# EAGLE library part 108-2AD1T3642-EVX (library switch-mountain)
Toggle Switch DPDT, Sealed Sub-Miniature, Right Angle
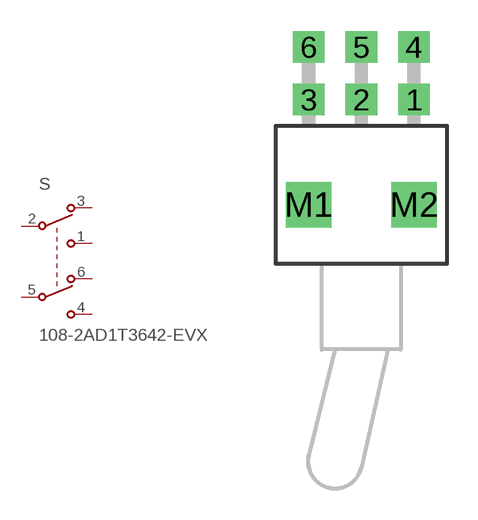
[diagram p0: symbol with the pads of 108-2AD1T3642-EVX; footprint 108-2AD1T3642-EVX]

Designator prefix S

## 108-2AD1T3642-EVX  [108-2AD1T3642-EVX]
1  NO1  pas
2  COM1  pas
3  NC1  pas
4  NO2  pas
5  COM2  pas
6  NC2  pas

## Footprint 108-2AD1T3642-EVX (pad centres in mm)
108-2AD1T3642-EVX Mountain Switch
drill 1.016 square: 1 2.54,0; 2 0,0; 3 -2.54,0; 4 2.54,2.54; 5 0,2.54; 6 -2.54,2.54
drill 1.016 pad 2.184 square: M1 -2.54,-5.08; M2 2.54,-5.08